# Altium schematic symbol library CM7V-T1A-32.768KHZ.SchLib: 1 symbol
Pins are listed as number, name and electrical type; pins without a type are passive.

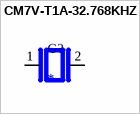
[diagram p0: symbol CM7V-T1A-32.768KHZ]

## CM7V-T1A-32.768KHZ
designator G?
Tuning Fork Crystal 32.768kHz in SMD 1.5 x 3.2 mm package; MF: Micro Crystal; MP: CM7V-T1A-32.768KHZ-12.5PF-10PPM-TA-QC; SnapEDA_Link: https://www.snapeda.com/parts/CM7V-T1A-32.768KHZ-12.5PF-10PPM-TA-QC/Micro+Crystal/view-part/?ref=snap; Package: SMD-2 Micro Crystal; Value: *; Check_prices: https://www.snapeda.com/parts/CM7V-T1A-32.768KHZ-12.5PF-10PPM-TA-QC/Micro+Crystal/view-part/?ref=eda
footprint CM7V-T1A-32.768KHZ
pins: 1, 2